# Altium schematic symbol library SunflowerSCH.SchLib: 46 symbols (part 2 of 2)
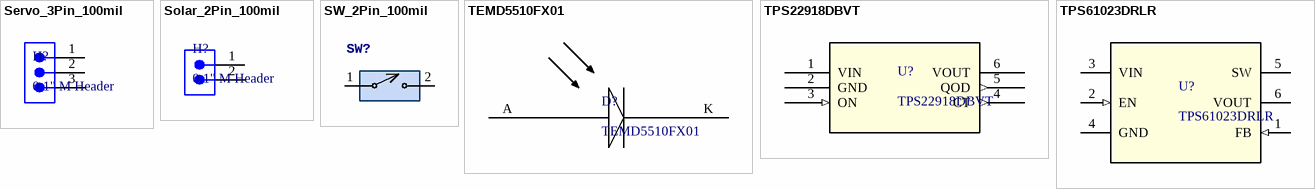
[diagram p2: symbols Servo_3Pin_100mil to TPS61023DRLR]

## Solar_2Pin_100mil
designator H?, comment 0.1" M Header
CONN HEADER VERT 2POS 2.54MM; Manufacturer: Sullins; Manufacturer Part Number: PRPC002SAAN-RC; Connector Type: Header, Unshrouded, Breakaway; Number of Positions: 2; Number of Positions Loaded: All; Pitch: 0.100" (2.54mm); Online Catalog: 0.100" (2.54mm) Pitch Connector Headers; Other Names: S9510E-02  S9510E-02-ND; Supplier 1: Digi-Key; Stock 1: 42739; Pricing 1: 1=0.08, 10=0.073, 25=0.054, 50=0.0464, 100=0.0449, 250=0.0387, 500=0.0372 (USD); Standard Package: 1; Category: Connectors, Interconnects; Family: Rectangular Connectors - Headers, Male Pins; Series: -; Packaging: Bulk; Contact Type: Male Pin; Number of Rows: 1; Row Spacing: -; Contact Mating Length: 0.230" (5.84mm); Mounting Type: Through Hole; Termination: Solder; Fastening Type: -; Features: -; Contact Finish: Gold; Contact Finish Thickness: Flash; Color: Black; ComponentLink1URL: https://media.digikey.com/PDF/Data%20Sheets/Sullins%20PDFs/xRxCzzzSxxN-RC_ST_11635-B.pdf?src-supplier=Digi-Key; ComponentLink1Description: https://media.digikey.com/PDF/Data%20Sheets/Sullins%20PDFs/xRxCzzzSxxN-RC_ST_11635-B.pdf?src-supplier=Digi-Key; Supplier Part Number 1: S1011EC-02-ND
footprint 2_PIN_100MIL
pins: 1, 2

## SW_2Pin_100mil
designator SW?
2Pin Header; LCSC Part#: C124375; Type: Extended
footprint 2_PIN_100MIL
pins: 1, 2

## TEMD5510FX01
designator D?
Ambient Light Sensor Photodiode; Supplier: DigiKey; Digikey Part Number: TEMD5510FX01CT-ND
footprint TEMD5510FX01
pins: A, K

## TPS22918DBVT
designator U?
2A Load Switch
footprint TPS22918DBVT
pins: 1 VIN (power), 2 GND (power), 3 ON (in), 4 CT (out), 5 QOD (out), 6 VOUT (power)

## TPS61023DRLR
designator U?
3.7-A boost converter with 0.5-V ultra-low input voltage 6-SOT-5X3 -40 to 125; Manufacturer_Name: Texas Instruments; TYPE: TYPE; RefDes: RefDes; Copyright: Copyright (C) 2025 Ultra Librarian. All rights reserved.; Manufacturer_Part_Number: TPS61023DRLR; Digikey Part Number: 296-TPS61023DRLRCT-ND
footprint DRL0006A
pins: 1 FB (in), 2 EN (in), 3 VIN (power), 4 GND (power), 5 SW (power), 6 VOUT (power)